# Altium schematic symbol library 74HTC123.SchLib: 1 symbol
Pins are listed as number, name and electrical type; pins without a type are passive.

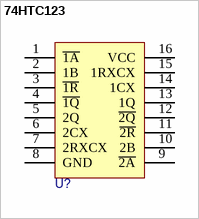
[diagram p0: symbol 74HTC123]

## 74HTC123
designator U?
pins: 1 ~{1A}, 2 1B, 3 ~{1R}, 4 ~{1Q}, 5 2Q, 6 2CX, 7 2RXCX, 8 GND, 9 ~{2A}, 10 2B, 11 ~{2R}, 12 ~{2Q}, 13 1Q, 14 1CX, 15 1RXCX, 16 VCC